# Altium footprint library Honeywell.PcbLib: 1 footprints
Each footprint in its own frame and in the unit in brackets; x right, y up, seen from the top. Pads: shape width x height; smd on the part's side, far side on the other; paste and mask are expansions set on the pad; w line width, h text height; cw(c..) or ccw(c..) is an arc to the next point about the centre after c.
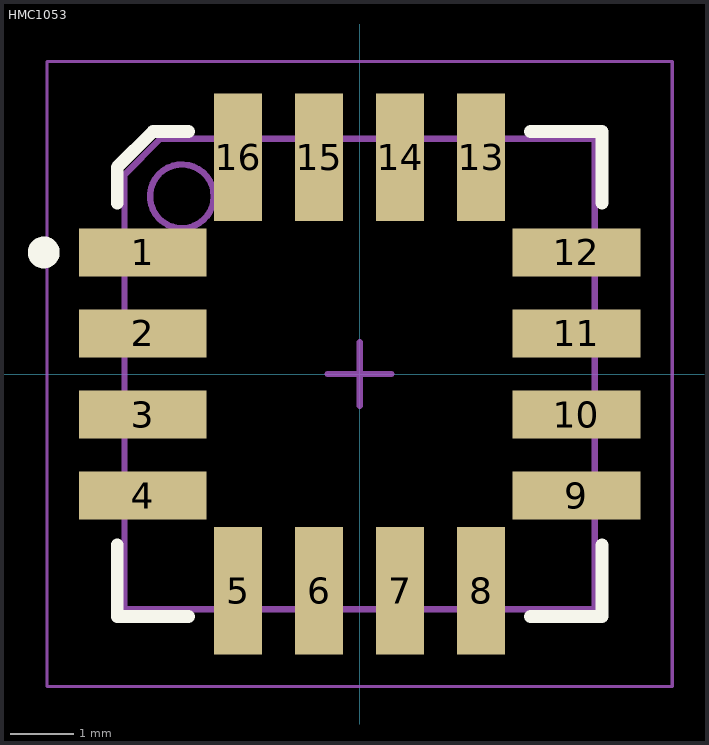
[diagram p0: the footprint, top view; thin cyan lines are the x and y axes]

## HMC1053 [mm] "LCC, 16-Pins, Body 7.37x7.37mmx2.79mm, Pitch 1.27mm, IPC Low Density"
height 2.8
pads (16):
  rect 2x0.75 smd mask+0.05: 1(-3.4,1.905) 2(-3.4,0.635) 3(-3.4,-0.635) 4(-3.4,-1.905) 9(3.4,-1.905) 10(3.4,-0.635) 11(3.4,0.635) 12(3.4,1.905)
  rect 0.75x2 smd mask+0.05: 5(-1.905,-3.4) 6(-0.635,-3.4) 7(0.635,-3.4) 8(1.905,-3.4) 13(1.905,3.4) 14(0.635,3.4) 15(-0.635,3.4)
  rect 0.75x2 smd paste+0 mask+0.05: 16(-1.905,3.4)
Top Overlay:
  circle w0.25: c-4.95,1.905 r0.125
  lines w0.2: -3.8,-2.68 -3.8,-3.8 -2.68,-3.8 ; -3.8,2.68 -3.8,3.24 -3.24,3.8 -2.68,3.8 ; 2.68,-3.8 3.8,-3.8 3.8,-2.68 ; 2.68,3.8 3.8,3.8 3.8,2.68
Mechanical 13:
  circle w0.1: c-2.785,2.785 r0.5
  lines w0.1: -3.685,-3.685 3.685,-3.685 3.685,3.685 -3.125,3.685 -3.685,3.125 -3.685,-3.685
Mechanical 15:
  lines w0.05: -4.9,-4.9 4.9,-4.9 4.9,4.9 -4.9,4.9 -4.9,-4.9
  lines w0.1: -0.5,0 0.5,0 ; 0,-0.5 0,0.5
3D body "HMC1053.step": height 2.79, standoff 0, extent -3.683,-3.683 3.683,3.683